# Altium footprint library MP1476LGTF-P.PcbLib: 3 footprints
Each footprint in its own frame and in the unit in brackets; x right, y up, seen from the top. Pads: shape width x height; smd on the part's side, far side on the other; paste and mask are expansions set on the pad; w line width, h text height; cw(c..) or ccw(c..) is an arc to the next point about the centre after c.
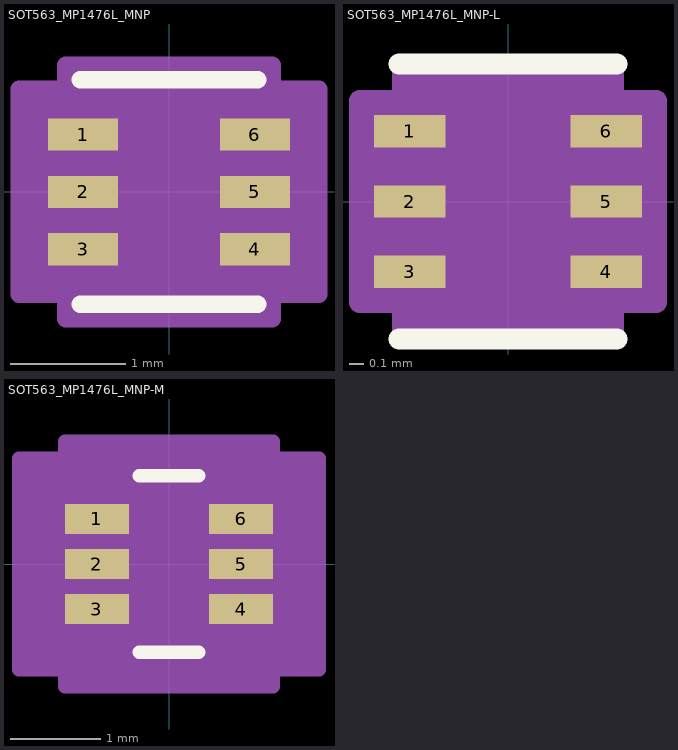
[diagram p0: the footprints below, top view; thin cyan lines are the x and y axes]

## SOT563_MP1476L_MNP [mil]
pads (6):
  rect 24x11 smd paste+0 mask+0: 1(-29.5,19.68) 2(-29.5,0) 3(-29.5,-19.68) 4(29.5,-19.68) 5(29.5,0) 6(29.5,19.68)
Top Overlay:
  lines w6: -30.5,-38.5 30.5,-38.5 ; -30.5,38.5 30.5,38.5
Mechanical 13:
  circle w0: c-17.5,19.68 r3
  lines w0: -12,33.5 ccw(c0,33.5) 12,33.5
  lines w1: -25.5,-33.5 -25.5,33.5 25.5,33.5 25.5,-33.5 -25.5,-33.5
Mechanical 15:
  region: 35.5,-43.5 -35.5,-43.5 -35.5,-35.19 -51.5,-35.19 -51.5,35.19 -35.5,35.19 -35.5,43.5 35.5,43.5 35.5,35.19 51.5,35.19 51.5,-35.19 35.5,-35.19
  lines w6: -51.5,-35.19 -51.5,35.19 -35.5,35.19 -35.5,43.5 35.5,43.5 35.5,35.19 51.5,35.19 51.5,-35.19 35.5,-35.19 35.5,-43.5 -35.5,-43.5 -35.5,-35.19 -51.5,-35.19
3D body "SOT563_MP1476L_MNP.step": height 22.09, standoff 0, extent -33.5,-33.5 33.5,33.5

## SOT563_MP1476L_MNP-L [mil]
pads (6):
  rect 20x9 smd paste+0 mask+0: 1(-27.5,19.68) 2(-27.5,0) 3(-27.5,-19.68) 4(27.5,-19.68) 5(27.5,0) 6(27.5,19.68)
Top Overlay:
  lines w6: -30.5,-38.5 30.5,-38.5 ; -30.5,38.5 30.5,38.5
Mechanical 13:
  circle w0: c-17.5,19.68 r3
  lines w0: -12,33.5 ccw(c0,33.5) 12,33.5
  lines w1: -25.5,-33.5 25.5,-33.5 25.5,33.5 -25.5,33.5 -25.5,-33.5
Mechanical 15:
  region: 29.5,-37.5 -29.5,-37.5 -29.5,-28.18 -41.5,-28.18 -41.5,28.18 -29.5,28.18 -29.5,37.5 29.5,37.5 29.5,28.18 41.5,28.18 41.5,-28.18 29.5,-28.18
  lines w6: -41.5,-28.18 -29.5,-28.18 -29.5,-37.5 29.5,-37.5 29.5,-28.18 41.5,-28.18 41.5,28.18 29.5,28.18 29.5,37.5 -29.5,37.5 -29.5,28.18 -41.5,28.18 -41.5,-28.18
3D body "SOT563_MP1476L_MNP.step": height 22.09, standoff 0, extent -33.5,-33.5 33.5,33.5

## SOT563_MP1476L_MNP-M [mil]
pads (6):
  rect 28x13 smd paste+0 mask+0: 1(-31.5,19.68) 2(-31.5,0) 3(-31.5,-19.68) 4(31.5,-19.68) 5(31.5,0) 6(31.5,19.68)
Top Overlay:
  lines w6: -13.03,-38.5 13.03,-38.5 ; -13.03,38.5 13.03,38.5
Mechanical 13:
  circle w0: c-17.5,19.68 r3
  lines w0: -12,33.5 ccw(c0,33.5) 12,33.5
  lines w1: -25.5,-33.5 25.5,-33.5 25.5,33.5 -25.5,33.5 -25.5,-33.5
Mechanical 15:
  region: 45.5,-53.5 -45.5,-53.5 -45.5,-46.19 -65.5,-46.19 -65.5,46.19 -45.5,46.19 -45.5,53.5 45.5,53.5 45.5,46.19 65.5,46.19 65.5,-46.19 45.5,-46.19
  lines w6: -65.5,-46.19 -45.5,-46.19 -45.5,-53.5 45.5,-53.5 45.5,-46.19 65.5,-46.19 65.5,46.19 45.5,46.19 45.5,53.5 -45.5,53.5 -45.5,46.19 -65.5,46.19 -65.5,-46.19
3D body "SOT563_MP1476L_MNP.step": height 22.09, standoff 0, extent -33.5,-33.5 33.5,33.5